# Altium footprint library Miscellaneous.PcbLib: 70 footprints (part 5 of 5)
Each footprint in its own frame and in the unit in brackets; x right, y up, seen from the top. Pads: shape width x height; smd on the part's side, far side on the other; paste and mask are expansions set on the pad; w line width, h text height; cw(c..) or ccw(c..) is an arc to the next point about the centre after c.
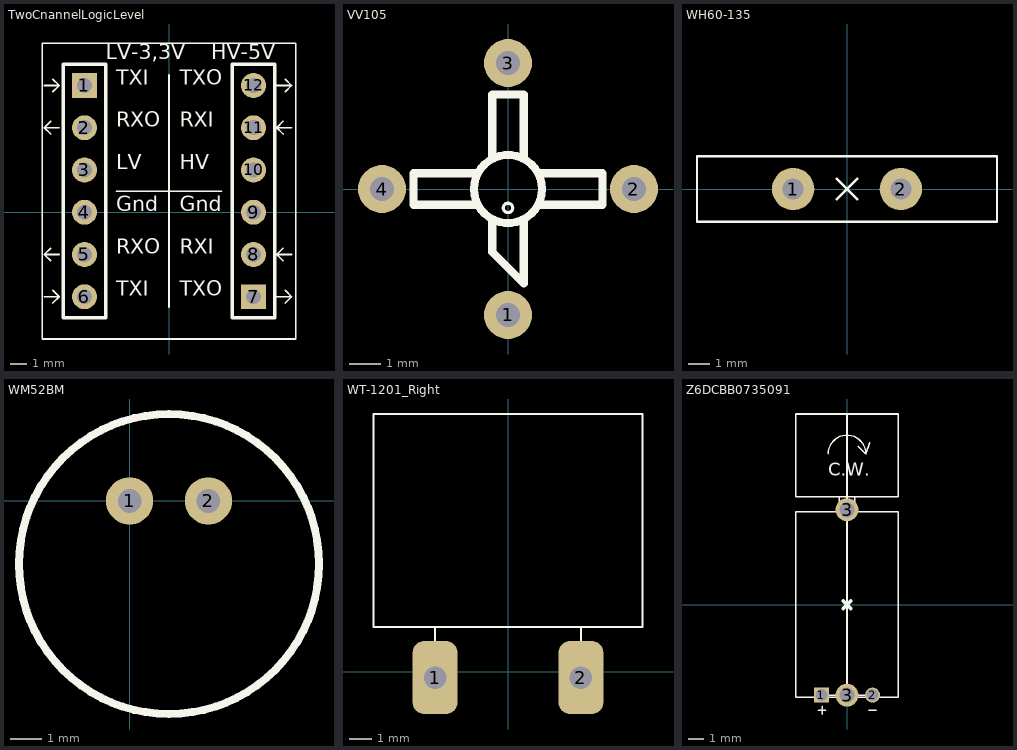
[diagram p4: the footprints below, top view; thin cyan lines are the x and y axes]

## TwoCnannelLogicLevel [mm]
pads (12):
  rect 1.5x1.5 hole 0.9: 1(-5.08,7.62) 7(5.08,-5.08)
  round 1.5 hole 0.9: 2(-5.08,5.08) 3(-5.08,2.54) 4(-5.08,0) 5(-5.08,-2.54) 6(-5.08,-5.08) 8(5.08,-2.54) 9(5.08,0) 10(5.08,2.54) 11(5.08,5.08) 12(5.08,7.62)
Top Overlay:
  lines w0.1: -7.493,-5.08 -6.604,-5.08 ; -7.493,7.62 -6.604,7.62 ; -7.112,-2.921 -7.493,-2.54 ; -7.112,-2.159 -7.493,-2.54 ; -7.112,4.699 -7.493,5.08 ; -7.112,5.461 -7.493,5.08 ; -6.985,-5.461 -6.604,-5.08 ; -6.985,-4.699 -6.604,-5.08 ; -6.985,7.239 -6.604,7.62 ; -6.985,8.001 -6.604,7.62 ; -6.604,-2.54 -7.493,-2.54 ; -6.604,5.08 -7.493,5.08 ; -3.175,1.27 3.175,1.27 ; 0,-5.715 0,8.255 ; 6.477,-5.08 7.366,-5.08 ; 6.477,7.62 7.366,7.62 ; 6.858,-2.921 6.477,-2.54 ; 6.858,-2.159 6.477,-2.54 ; 6.858,4.699 6.477,5.08 ; 6.858,5.461 6.477,5.08 ; 6.985,-5.461 7.366,-5.08 ; 6.985,-4.699 7.366,-5.08 ; 6.985,7.239 7.366,7.62 ; 6.985,8.001 7.366,7.62 ; 7.366,-2.54 6.477,-2.54 ; 7.366,5.08 6.477,5.08 ; -7.62,-7.62 7.62,-7.62 7.62,10.16 -7.62,10.16 -7.62,-7.62
  lines w0.2: -6.35,-6.35 -3.81,-6.35 -3.81,8.89 -6.35,8.89 -6.35,-6.35 ; 3.81,-6.35 6.35,-6.35 6.35,8.89 3.81,8.89 3.81,-6.35
  text "TXI" at -3.175,-5.334 h1.52
  text "TXO" at 0.635,-5.334 h1.52
  text "RXO" at -3.175,-2.794 h1.52
  text "RXI" at 0.635,-2.794 h1.52
  text "Gnd" at 0.635,-0.254 h1.52
  text "Gnd" at -3.175,-0.254 h1.52
  text "HV" at 0.635,2.286 h1.52
  text "LV" at -3.175,2.286 h1.52
  text "RXI" at 0.635,4.826 h1.52
  text "RXO" at -3.175,4.826 h1.52
  text "TXI" at -3.175,7.366 h1.52
  text "TXO" at 0.635,7.366 h1.52
  text "LV-3,3V" at -3.81,8.89 h1.52
  text "HV-5V" at 2.54,8.89 h1.52
3D body "PLS-1.step": height 8.44, standoff -3, extent -6.35,-6.35 -3.81,-3.81
3D body "PLS-1.step": height 8.44, standoff -3, extent -6.35,-3.81 -3.81,-1.27
3D body "PLS-1.step": height 8.44, standoff -3, extent -6.35,-1.27 -3.81,1.27
3D body "PLS-1.step": height 8.44, standoff -3, extent -6.35,1.27 -3.81,3.81
3D body "PLS-1.step": height 8.44, standoff -3, extent -6.35,3.81 -3.81,6.35
3D body "PLS-1.step": height 8.44, standoff -3, extent -6.35,6.35 -3.81,8.89
3D body "PLS-1.step": height 8.44, standoff -3, extent 3.81,-6.35 6.35,-3.81
3D body "PLS-1.step": height 8.44, standoff -3, extent 3.81,-3.81 6.35,-1.27
3D body "PLS-1.step": height 8.44, standoff -3, extent 3.81,-1.27 6.35,1.27
3D body "PLS-1.step": height 8.44, standoff -3, extent 3.81,1.27 6.35,3.81
3D body "PLS-1.step": height 8.44, standoff -3, extent 3.81,3.81 6.35,6.35
3D body "PLS-1.step": height 8.44, standoff -3, extent 3.81,6.35 6.35,8.89

## VV105 [mil]
height 59.84
pads (4):
  round 60 hole 30: 1(0,-157.48) 2(157.48,0) 3(0,157.48) 4(-157.48,0)
Top Overlay:
  circle w3.94: c0,-23.62 r5.91
  circle w10: c0,0 r42.52
  lines w10: -39.37,19.69 -118.11,19.69 -118.11,-19.68 ; -19.68,-39.37 -19.68,-78.74 19.68,-118.11 19.68,-39.37 ; -19.68,39.37 -19.68,118.11 19.68,118.11 19.68,39.37 ; 39.37,-19.68 118.11,-19.68 118.11,19.68 ; 42.52,19.68 118.11,19.68 ; 115,19.68 118.11,19.68 ; -118.11,-19.68 -39.37,-19.68 -118.11,-19.68
3D body: height 19.68, standoff 7.87, extent 39.35,-19.7 118.13,19.7
3D body: height 19.68, standoff 7.87, extent -19.7,39.35 19.7,118.13
3D body: height 59.84, standoff 0, extent -5.89,-29.51 5.89,-17.74
3D body: height 59.84, standoff 0, extent -42.5,-42.5 42.5,42.5
3D body: height 59.84, standoff 0, extent -19.7,-78.76 -19.7,-78.75
3D body: height 19.68, standoff 7.87, extent -118.13,-19.7 -39.35,19.71
3D body: height 19.68, standoff 7.87, extent -19.7,39.35 19.7,118.13
3D body: height 19.68, standoff 0, extent -5.89,-29.51 5.89,-17.74
3D body: height 59.84, standoff 0, extent -42.5,-42.5 42.5,42.5
3D body: height 19.68, standoff 0, extent -19.7,-78.76 -19.7,-78.75
3D body: height 19.68, standoff 7.87, extent -118.13,-19.7 -39.35,19.71
3D body: height 19.68, standoff 0, extent -118.13,-19.7 -39.35,19.71
3D body: height 19.68, standoff 0, extent -19.7,-78.76 -19.7,-78.75

## WH60-135 [mm]
pads (2):
  round 2 hole 1: 1(-2.55,0) 2(2.55,0)
Top Overlay:
  lines w0.1: -0.5,-0.5 0.5,0.5 ; -0.5,0.5 0.5,-0.5 ; -7.1,-1.55 -7.1,1.55 7.1,1.55 7.1,-1.55 -7.1,-1.55
3D body: height 15.1, standoff 0.9, extent -7.1,-1.575 7.1,1.525

## WM52BM [mil] "MIC COND ANALOG OMNI -44DB"
height 177.17
pads (2):
  round 60 hole 30: 1(0,0) 2(100,0)
Top Overlay:
  circle w10: c50,-80 r190.26
3D body "User Library-Panasonic_Microphone_WM52BM.STEP": height 202.76, standoff -158.17, extent -140.94,-270.94 240.94,110.95

## WT-1201_Right [mm]
pads (2):
  rrect50% 2x3.25 hole 1: 1(-3.25,-0.25) 2(3.25,-0.25)
Top Overlay:
  lines w0.1: -3.25,-1.5 -3.25,2 ; 3.25,-1.5 3.25,2 ; -6,2 6,2 6,11.5 -6,11.5 -6,2
3D body "WT-1201.step": height 6, standoff -6, extent -6,-1.8 6.01,11.5

## Z6DCBB0735091 [mm]
height 6.6
pads (4):
  rect 1x1 / inner round 1.5 / far side rect 1.5x1.5 hole 0.8: 1(-1.7,-6)
  round 1 / inner round 1.5 / far side round 1.5 hole 0.8: 2(1.7,-6)
  round 1.524 hole 1: 3(0,-6) 3(0,6.3)
Top Overlay:
  lines w0.1: -1.9,-7 -1.4,-7 ; -1.7,-6.15 -1.7,-5.85 ; -1.65,-7.25 -1.65,-6.75 ; -1.4,-6 1.4,-6 ; -1.25,10 cw(c0,10) 1.25,10 ; -0.5,6.15 -0.5,7.15 ; 0,6.45 0,6.15 0,-5.85 0,-6.15 0,12.65 ; 0.5,6.15 0.5,7.15 ; 0.75,10.5 1.25,10 ; 1.45,-7 1.95,-7 ; 1.5,10.75 1.25,10 ; 1.7,-6.15 1.7,-5.85 ; -3.4,-6.15 3.4,-6.15 3.4,6.15 -3.4,6.15 -3.4,-6.15 ; -3.4,7.15 3.4,7.15 3.4,12.65 -3.4,12.65 -3.4,7.15 ; -2,-6.15 -2,-5.85 -1.4,-5.85 -1.4,-6.15 -2,-6.15 ; -0.4,-6.15 -0.4,-5.85 0.4,-5.85 0.4,-6.15 -0.4,-6.15 ; -0.4,6.15 0.4,6.15 0.4,6.45 -0.4,6.45 -0.4,6.15 ; 1.4,-6.15 1.4,-5.85 2,-5.85 2,-6.15 1.4,-6.15
  lines w0.254: -0.25,-0.25 0.25,0.25 ; -0.25,0.25 0.25,-0.25
  text "C.W." at -1.25,8.25 h1.5
3D body: height 6.7, standoff -0.1, extent -3.4,7.15 3.4,12.65
3D body: height 6.7, standoff -0.1, extent -3.4,-6.15 3.4,6.15